# Altium schematic symbol library headers6.SchLib: 1 symbol
Pins are listed as number, name and electrical type; pins without a type are passive.

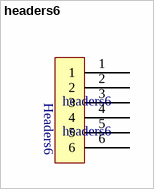
[diagram p0: symbol headers6]

## headers6
designator headers6
footprint Headers6
pins: 1, 2, 3, 4, 5, 6
text: Headers6